# Altium schematic symbol library Wireless_WiFi_ESP32_GOST.SchLib: 2 symbols
Pins are listed as number, name and electrical type; pins without a type are passive.

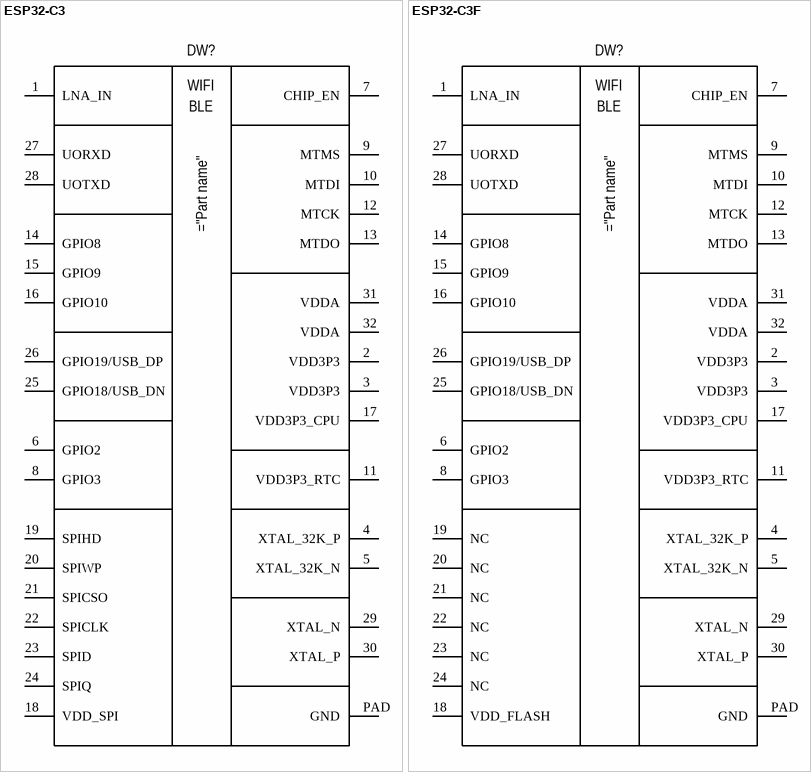
[diagram p0: symbols ESP32-C3 to ESP32-C3F]

## ESP32-C3
designator DW?
pins: 1 LNA_IN, 2 VDD3P3, 3 VDD3P3, 4 XTAL_32K_P, 5 XTAL_32K_N, 6 GPIO2, 7 CHIP_EN, 8 GPIO3, 9 MTMS, 10 MTDI, 11 VDD3P3_RTC, 12 MTCK, 13 MTDO, 14 GPIO8, 15 GPIO9, 16 GPIO10, 17 VDD3P3_CPU, 18 VDD_SPI, 19 SPIHD, 20 SPIWP, 21 SPICSO, 22 SPICLK, 23 SPID, 24 SPIQ, 25 GPIO18/USB_DN, 26 GPIO19/USB_DP, 27 UORXD, 28 UOTXD, 29 XTAL_N, 30 XTAL_P, 31 VDDA, 32 VDDA, PAD GND
text: WIFI; BLE

## ESP32-C3F
designator DW?
pins: 1 LNA_IN, 2 VDD3P3, 3 VDD3P3, 4 XTAL_32K_P, 5 XTAL_32K_N, 6 GPIO2, 7 CHIP_EN, 8 GPIO3, 9 MTMS, 10 MTDI, 11 VDD3P3_RTC, 12 MTCK, 13 MTDO, 14 GPIO8, 15 GPIO9, 16 GPIO10, 17 VDD3P3_CPU, 18 VDD_FLASH, 19 NC, 20 NC, 21 NC, 22 NC, 23 NC, 24 NC, 25 GPIO18/USB_DN, 26 GPIO19/USB_DP, 27 UORXD, 28 UOTXD, 29 XTAL_N, 30 XTAL_P, 31 VDDA, 32 VDDA, PAD GND
text: WIFI; BLE